# Altium footprint library PCB - LEADLESS - QFN - TI QFN-40 RHA0040B.PcbLib: 1 footprints
Each footprint in its own frame and in the unit in brackets; x right, y up, seen from the top. Pads: shape width x height; smd on the part's side, far side on the other; paste and mask are expansions set on the pad; w line width, h text height; cw(c..) or ccw(c..) is an arc to the next point about the centre after c.
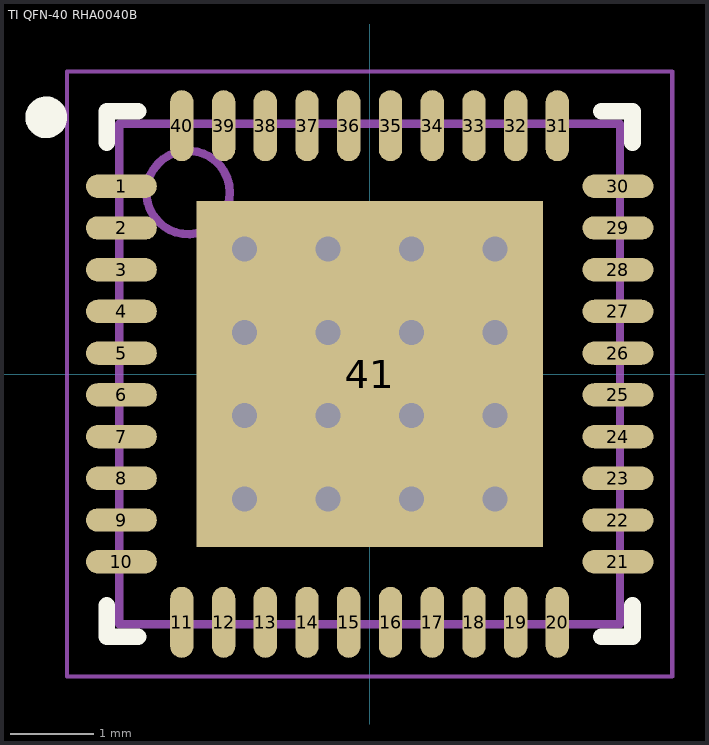
[diagram p0: the footprint, top view; thin cyan lines are the x and y axes]

## TI QFN-40 RHA0040B [mm] "QFN, 40-Leads, Body 6.00x6.00mm, Pitch 0.50mm, Thermal Pad 4.15x4.15mm, IPC Medium Density"
height 1
pads (41):
  oval 0.85x0.28 smd: 1(-2.975,2.25) 2(-2.975,1.75) 3(-2.975,1.25) 4(-2.975,0.75) 5(-2.975,0.25) 6(-2.975,-0.25) 7(-2.975,-0.75) 8(-2.975,-1.25) 9(-2.975,-1.75) 10(-2.975,-2.25) 21(2.975,-2.25) 22(2.975,-1.75) 23(2.975,-1.25) 24(2.975,-0.75) 25(2.975,-0.25) 26(2.975,0.25) 27(2.975,0.75) 28(2.975,1.25) 29(2.975,1.75) 30(2.975,2.25)
  oval 0.28x0.85 smd: 11(-2.25,-2.975) 12(-1.75,-2.975) 13(-1.25,-2.975) 14(-0.75,-2.975) 15(-0.25,-2.975) 16(0.25,-2.975) 17(0.75,-2.975) 18(1.25,-2.975) 19(1.75,-2.975) 20(2.25,-2.975) 31(2.25,2.975) 32(1.75,2.975) 33(1.25,2.975) 34(0.75,2.975) 35(0.25,2.975) 36(-0.25,2.975) 37(-0.75,2.975) 38(-1.25,2.975) 39(-1.75,2.975) 40(-2.25,2.975)
  rect 4.15x4.15 smd: 41(0,0)
via -1.5,1.5 diameter 0.5 hole 0.3
via -0.5,1.5 diameter 0.5 hole 0.3
via 0.5,1.5 diameter 0.5 hole 0.3
via 1.5,1.5 diameter 0.5 hole 0.3
via -1.5,0.5 diameter 0.5 hole 0.3
via -0.5,0.5 diameter 0.5 hole 0.3
via 0.5,0.5 diameter 0.5 hole 0.3
via 1.5,0.5 diameter 0.5 hole 0.3
via -1.5,-0.5 diameter 0.5 hole 0.3
via -0.5,-0.5 diameter 0.5 hole 0.3
via 0.5,-0.5 diameter 0.5 hole 0.3
via 1.5,-0.5 diameter 0.5 hole 0.3
via -1.5,-1.5 diameter 0.5 hole 0.3
via -0.5,-1.5 diameter 0.5 hole 0.3
via 0.5,-1.5 diameter 0.5 hole 0.3
via 1.5,-1.5 diameter 0.5 hole 0.3
Top Overlay:
  circle w0.25: c-3.875,3.075 r0.125
  lines w0.2: -3.15,-2.775 -3.15,-3.15 -2.775,-3.15 ; -3.15,2.775 -3.15,3.15 -2.775,3.15 ; 2.775,-3.15 3.15,-3.15 3.15,-2.775 ; 2.775,3.15 3.15,3.15 3.15,2.775
Mechanical 13:
  circle w0.1: c-2.175,2.175 r0.5
  lines w0.1: -3,-3 3,-3 3,3 -3,3 -3,-3
Mechanical 15:
  lines w0.05: -3.625,-3.625 -3.625,3.625 3.625,3.625 3.625,-3.625 -3.625,-3.625
  lines w0.1: -0.5,0 0.5,0 ; 0,-0.5 0,0.5
3D body: height 1, standoff 0, extent -3,-3 3,3